# EAGLE library part BH1745NUC (library mille-feuille)
Ambient light sensor ICs Digital 16bit Serial Output Type Color Sensor IC
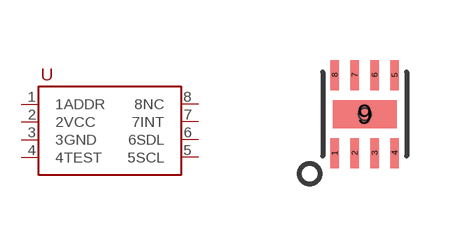
[diagram p40: symbol with the pads of WSON008X2120; footprint WSON008X2120]

Designator prefix U

## BH1745NUC  [WSON008X2120]
1  1ADDR
2  2VCC
3  3GND
4  4TEST
5  5SCL
6  6SDL
7  7INT
8  8NC

## Footprint WSON008X2120 (pad centres in mm)
smd 0.22 x 0.75: 1 -0.75,-0.975; 2 -0.25,-0.975; 3 0.25,-0.975; 4 0.75,-0.975; 5 0.75,0.975; 6 0.25,0.975; 7 -0.25,0.975; 8 -0.75,0.975
smd 1.6 x 0.7: 9 0,0
hole 0.3 at 0,0